# Altium schematic symbol library 16PJ222.SchLib: 1 symbol
Pins are listed as number, name and electrical type; pins without a type are passive.

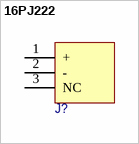
[diagram p0: symbol 16PJ222]

## 16PJ222
designator J?
pins: 1 +, 2 -, 3 NC